# Altium schematic symbol library SCH - POWER - LINEAR VREG - TI TPS76750D.SchLib: 1 symbol
Pins are listed as number, name and electrical type; pins without a type are passive.

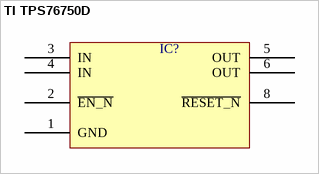
[diagram p0: symbol TI TPS76750D]

## TI TPS76750D
designator IC?  (value not drawn)
pins: 1 GND, 2 ~{EN_N}, 3 IN, 4 IN, 5 OUT, 6 OUT, 8 ~{RESET_N}